# Altium integrated library Wurth PSLP 331-010.IntLib: 1 symbol
Pins are listed as number, name and electrical type; pins without a type are passive.

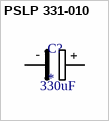
[diagram p0: symbol PSLP 331-010]

## PSLP 331-010
designator C?  value 330uF
Wurth PSLP 331-010 6.6X6.6X7.7 mm, 330uF, 10V
footprint CAPAE9166X77M (Aluminum Electrolytic Capacitor, Body 6,60x6,60x7,70mm, IPC Low Density)
pins: 1 +, 2 +
text: -